# Altium schematic symbol library general_components.SchLib: 2 symbols
Pins are listed as number, name and electrical type; pins without a type are passive.

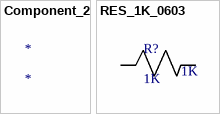
[diagram p0: symbols Component_2 to RES_1K_0603]

## Component_2
designator *

## RES_1K_0603
designator R?, comment 1K
RES 1K OHM 1% 1/10W 0603; Supplier 1: Digi-key; Supplier Part Number 1: *; Manufacturer: *; Manufacturer Part Number: *; ComponentLink1Description: New link; ComponentLink1URL: https://www.digikey.com/en/products/detail/stackpole-electronics-inc/RMCF0603FT1K00/1761077; Value: 1K
pins: 1, 2   